# Altium footprint library Headers.PcbLib: 27 footprints (part 2 of 2)
Each footprint in its own frame and in the unit in brackets; x right, y up, seen from the top. Pads: shape width x height; smd on the part's side, far side on the other; paste and mask are expansions set on the pad; w line width, h text height; cw(c..) or ccw(c..) is an arc to the next point about the centre after c.
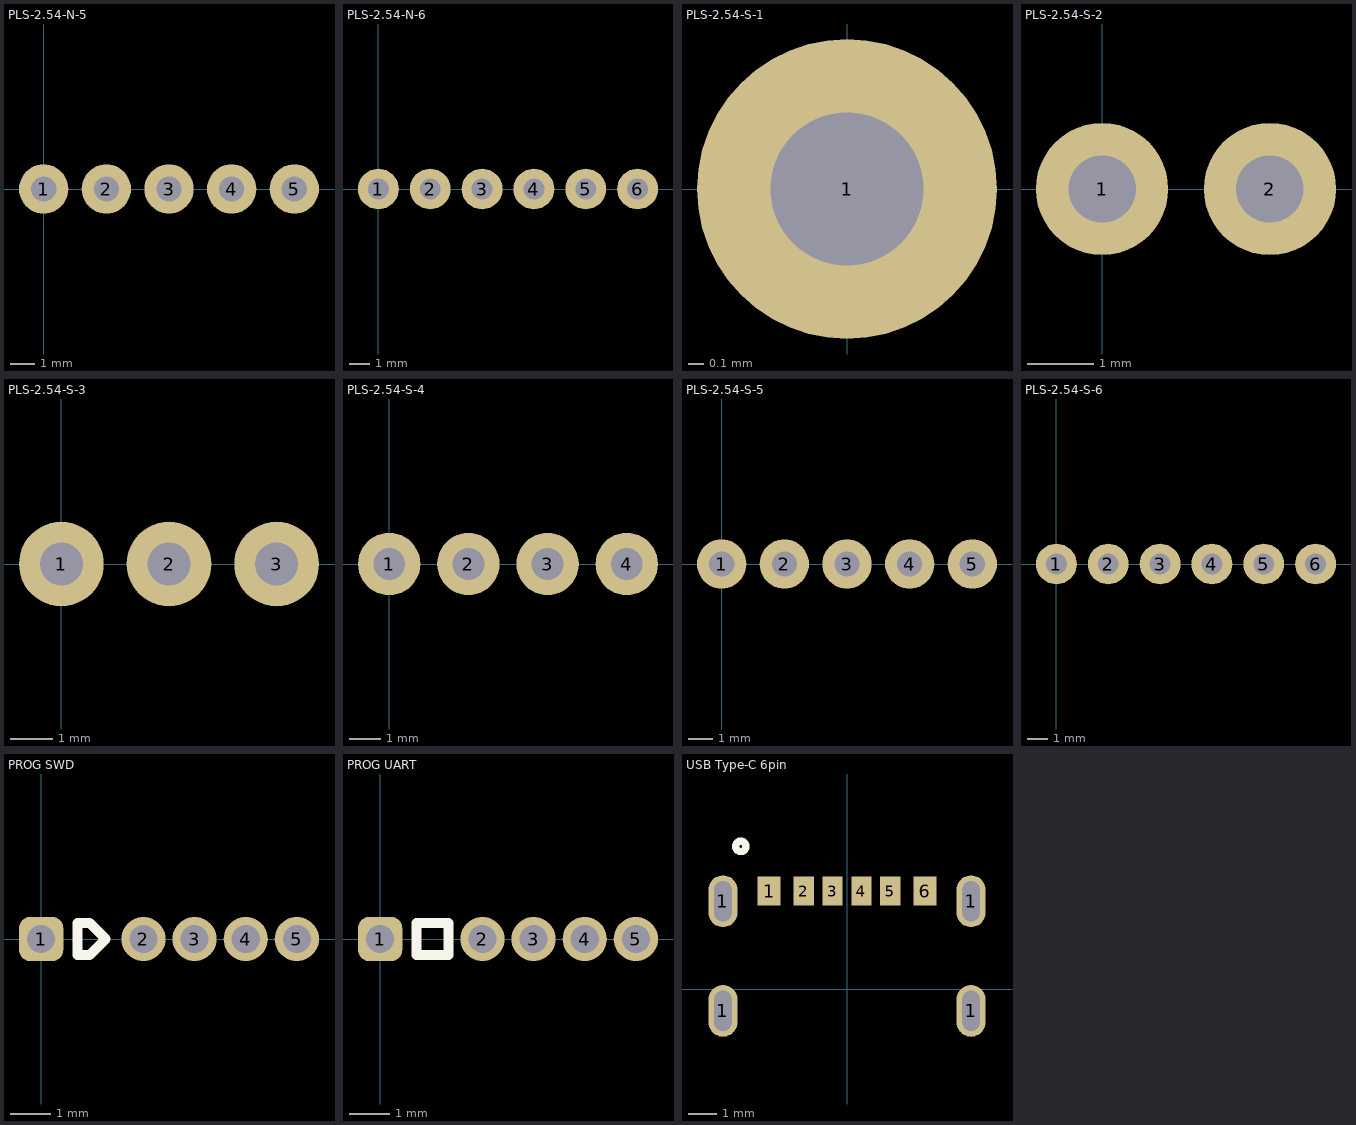
[diagram p1: the footprints below, top view; thin cyan lines are the x and y axes]

## PLS-2.54-N-5 [mm]
pads (5):
  round 2 hole 1.02: 1(0,0) 2(2.54,0) 3(5.08,0) 4(7.62,0) 5(10.16,0)

## PLS-2.54-N-6 [mm]
pads (6):
  round 2 hole 1.02: 1(0,0) 2(2.54,0) 3(5.08,0) 4(7.62,0) 5(10.16,0) 6(12.7,0)

## PLS-2.54-S-1 [mm]
pads (1):
  round 2 hole 1.02: 1(0,0)
3D body "PLS - Гребенка.stp": height 8.5, standoff -3.15, extent -1.27,-1.27 1.27,1.27

## PLS-2.54-S-2 [mm]
pads (2):
  round 2 hole 1.02: 1(0,0) 2(2.54,0)
3D body "PLS - Гребенка.stp": height 8.5, standoff -3.15, extent 1.27,-1.27 3.81,1.27
3D body "PLS - Гребенка.stp": height 8.5, standoff -3.15, extent -1.27,-1.27 1.27,1.27

## PLS-2.54-S-3 [mm]
pads (3):
  round 2 hole 1.02: 1(0,0) 2(2.54,0) 3(5.08,0)
3D body "PLS - Гребенка.stp": height 8.5, standoff -3.15, extent 3.81,-1.27 6.35,1.27
3D body "PLS - Гребенка.stp": height 8.5, standoff -3.15, extent 1.27,-1.27 3.81,1.27
3D body "PLS - Гребенка.stp": height 8.5, standoff -3.15, extent -1.27,-1.27 1.27,1.27

## PLS-2.54-S-4 [mm]
pads (4):
  round 2 hole 1.02: 1(0,0) 2(2.54,0) 3(5.08,0) 4(7.62,0)
3D body "PLS - Гребенка.stp": height 8.5, standoff -3.15, extent 6.35,-1.27 8.89,1.27
3D body "PLS - Гребенка.stp": height 8.5, standoff -3.15, extent 3.81,-1.27 6.35,1.27
3D body "PLS - Гребенка.stp": height 8.5, standoff -3.15, extent 1.27,-1.27 3.81,1.27
3D body "PLS - Гребенка.stp": height 8.5, standoff -3.15, extent -1.27,-1.27 1.27,1.27

## PLS-2.54-S-5 [mm]
pads (5):
  round 2 hole 1.02: 1(0,0) 2(2.54,0) 3(5.08,0) 4(7.62,0) 5(10.16,0)
3D body "PLS - Гребенка.stp": height 8.5, standoff -3.15, extent 8.89,-1.27 11.43,1.27
3D body "PLS - Гребенка.stp": height 8.5, standoff -3.15, extent 6.35,-1.27 8.89,1.27
3D body "PLS - Гребенка.stp": height 8.5, standoff -3.15, extent 3.81,-1.27 6.35,1.27
3D body "PLS - Гребенка.stp": height 8.5, standoff -3.15, extent 1.27,-1.27 3.81,1.27
3D body "PLS - Гребенка.stp": height 8.5, standoff -3.15, extent -1.27,-1.27 1.27,1.27

## PLS-2.54-S-6 [mm]
pads (6):
  round 2 hole 1.02: 1(0,0) 2(2.54,0) 3(5.08,0) 4(7.62,0) 5(10.16,0) 6(12.7,0)
3D body "PLS - Гребенка.stp": height 8.5, standoff -3.15, extent -1.27,-1.27 1.27,1.27
3D body "PLS - Гребенка.stp": height 8.5, standoff -3.15, extent 1.27,-1.27 3.81,1.27
3D body "PLS - Гребенка.stp": height 8.5, standoff -3.15, extent 3.81,-1.27 6.35,1.27
3D body "PLS - Гребенка.stp": height 8.5, standoff -3.15, extent 6.35,-1.27 8.89,1.27
3D body "PLS - Гребенка.stp": height 8.5, standoff -3.15, extent 8.89,-1.27 11.43,1.27
3D body "PLS - Гребенка.stp": height 8.5, standoff -3.15, extent 11.43,-1.27 13.97,1.27

## PROG SWD [mm]
pads (5):
  rrect50% 1.1x1.1 hole 0.7: 1(0,0)
  round 1.1 hole 0.7: 2(2.54,0) 3(3.81,0) 4(5.08,0) 5(6.35,0)
Top Overlay:
  lines w0.254: 0.9,-0.4 0.9,0.4 1.2,0.4 1.6,0 1.2,-0.4 0.9,-0.4

## PROG UART [mm]
pads (5):
  rrect50% 1.1x1.1 hole 0.7: 1(0,0)
  round 1.1 hole 0.7: 2(2.54,0) 3(3.81,0) 4(5.08,0) 5(6.35,0)
Top Overlay:
  lines w0.254: 0.9,-0.4 1.7,-0.4 1.7,0.4 0.9,0.4 0.9,-0.4

## USB Type-C 6pin [mm]
pads (10):
  oval 1x1.8 hole 0.6 slot 1.4 at 90 deg: 1(-4.3,-0.75) 1(-4.3,3.05) 1(4.3,-0.75) 1(4.3,3.05)
  rect 0.8x1 smd: 1(-2.7,3.4) 6(2.7,3.4)
  rect 0.7x1 smd: 2(-1.5,3.4) 3(-0.5,3.4) 4(0.5,3.4) 5(1.5,3.4)
Top Overlay:
  circle w0.254: c-3.683,4.953 r0.18
3D body "User Library-USB_Type_C_6pin.step": height 3.41, standoff -0.81, extent -4.474,-3.35 4.466,3.45